# Altium schematic symbol library SCH - CONNECTORS - CUI SJ-43515RS-SMT-TR.SCHLIB: 1 symbol
Pins are listed as number, name and electrical type; pins without a type are passive.

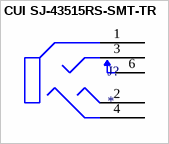
[diagram p0: symbol CUI SJ-43515RS-SMT-TR]

## CUI SJ-43515RS-SMT-TR
designator J?
pins: 1 SLEEVE, 2 TIP, 3 RING 1, 4 RING 2, 6 TIP